# Altium schematic symbol library IM_v1.0.SchLib: 77 symbols
Pins are listed as number, name and electrical type; pins without a type are passive.

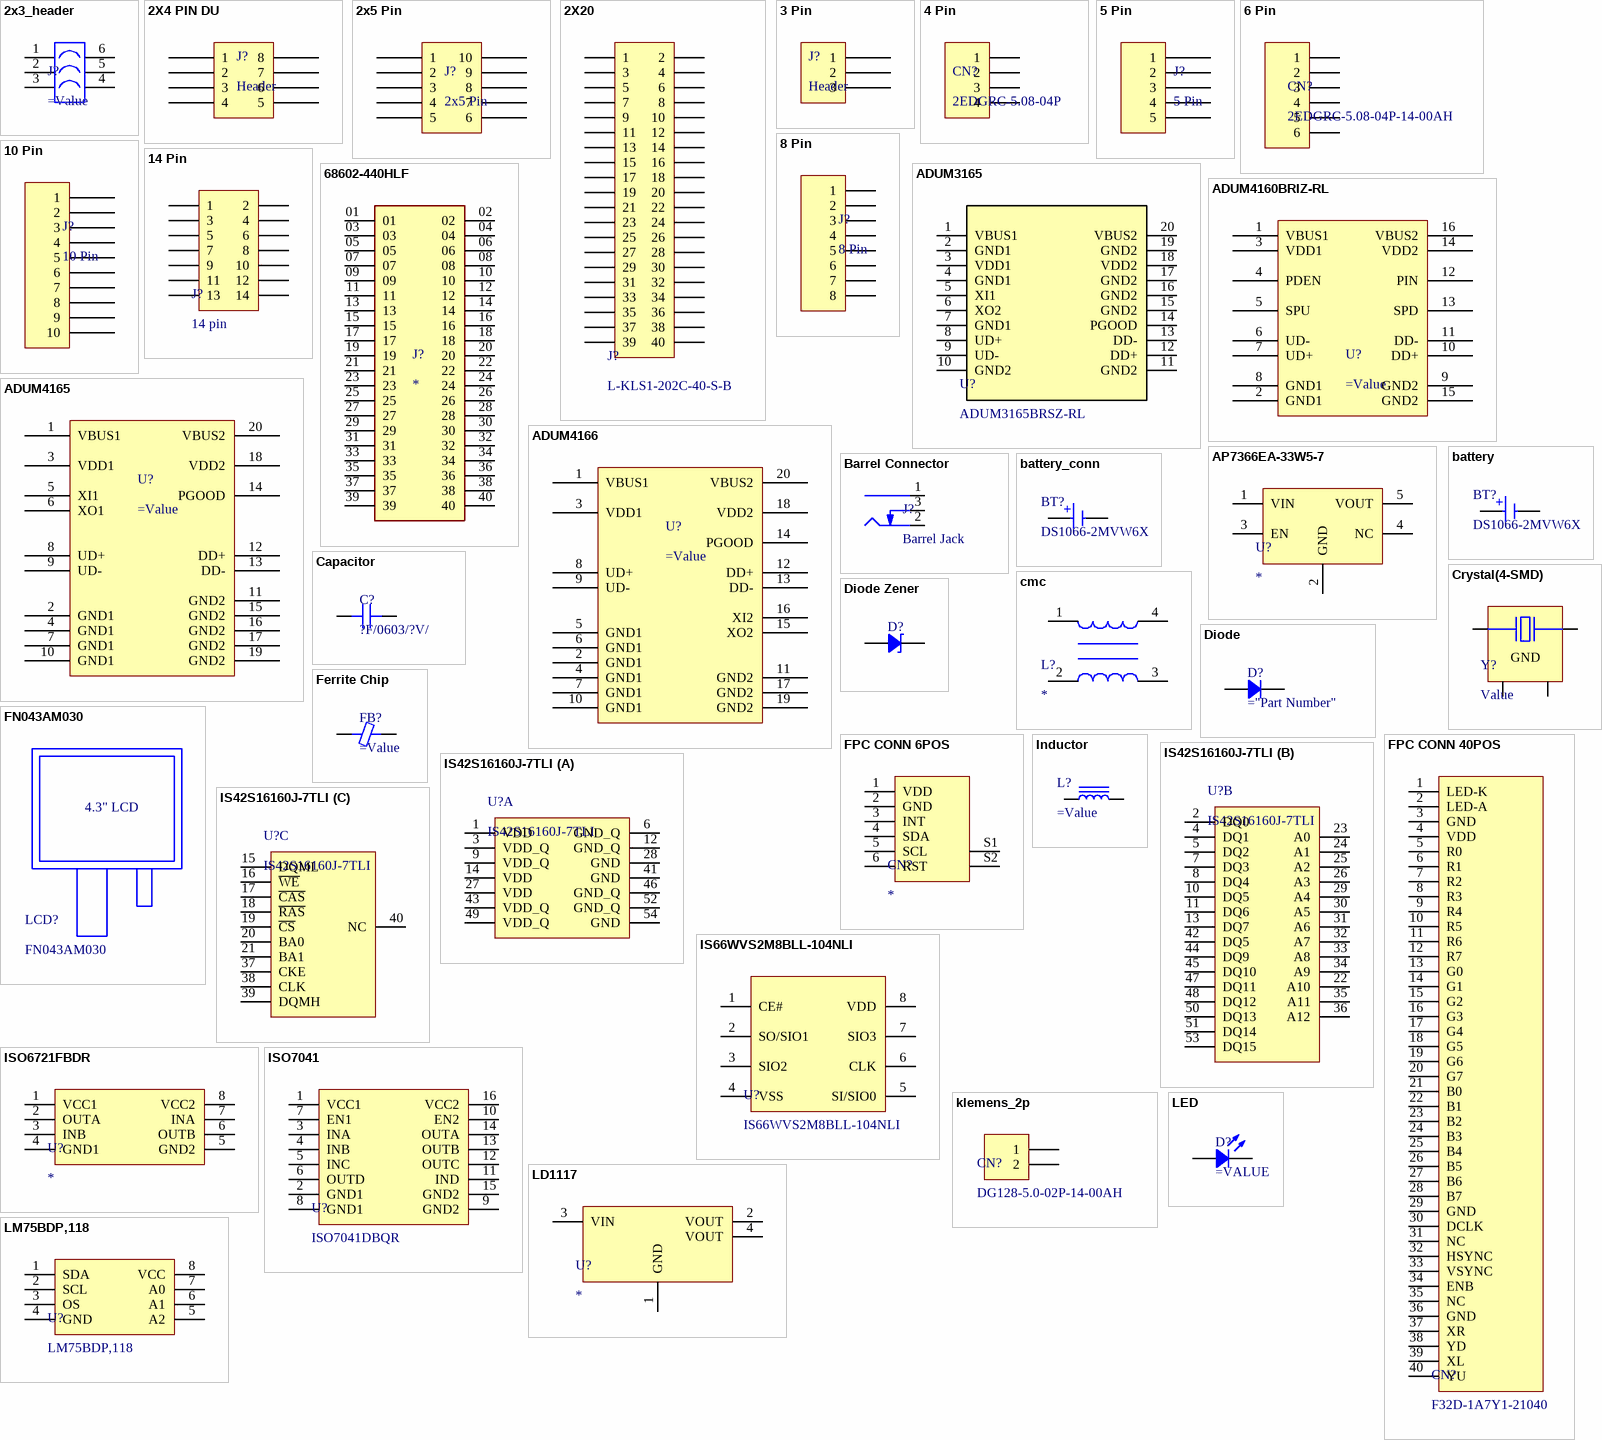
[diagram p0: symbols 2x3_header to LM75BDP,118]

## 2x3_header
designator J?
pins: 1, 2, 3, 4, 5, 6

## 2X4 PIN DU
designator J?, comment Header
pins: 1, 2, 3, 4, 5, 6, 7, 8

## 2x5 Pin
designator J?
pins: 1, 2, 3, 4, 5, 6, 7, 8, 9, 10

## 2X20
designator J?, comment L-KLS1-202C-40-S-B
BOX HEADER 40PIN(2x20) 1.27MM THT V/T MALE BLACK; Assembly: .; Value: L-KLS1-202C-40-S-B; PN: L-KLS1-202C-40-S-B; HelpURL: https://www.ozdisan.com/p/box-headerlar-295/kls-electronic-l-kls1-202c-40-s-b-531010
footprint L-KLS1-202C-40-S-B
pins: 1, 2, 3, 4, 5, 6, 7, 8, 9, 10, 11, 12, 13, 14, 15, 16, 17, 18, 19, 20, 21, 22, 23, 24, 25, 26, 27, 28, 29, 30, 31, 32, 33, 34, 35, 36, 37, 38, 39, 40

## 3 Pin
designator J?, comment Header
pins: 1, 2, 3

## 4 Pin
designator CN?, comment 2EDGRC-5.08-04P
Assembly: .; Value: 2EDGRC-5.08-04P; PN: 2EDGRC-5.08-04P; HelpURL: https://www.ozdisan.com/p/gecmeli-klemensler-411/degson-2edgrc-5-08-04p-14-00ah-445450
footprint 2EDGRC-5.08-04P
pins: 1, 2, 3, 4

## 5 Pin
designator J?
pins: 1, 2, 3, 4, 5

## 6 Pin
designator CN?, comment 2EDGRC-5.08-04P-14-00AH
Assembly: .; HelpURL: https://www.ozdisan.com/p/gecmeli-klemensler-411/degson-2edgrc-5-08-04p-14-00ah-445450; PN: 2EDGRC-5.08-04P-14-00AH; Value: 2EDGRC-5.08-04P-14-00AH
footprint 2EDGRC-5.08-06P
pins: 1, 2, 3, 4, 5, 6

## 8 Pin
designator J?
pins: 1, 2, 3, 4, 5, 6, 7, 8

## 10 Pin
designator J?
pins: 1, 2, 3, 4, 5, 6, 7, 8, 9, 10

## 14 Pin
designator J?, comment 14 pin
Value: *; PN: *; HelpURL: *; Assembly: *
pins: 1, 2, 3, 4, 5, 6, 7, 8, 9, 10, 11, 12, 13, 14

## 68602-440HLF
designator J?
MF: {'manufacturer': u'Amphenol ICC (FCI)'}; MP: 68602-440HLF; Package: None; Price: None; Value: *; Availability: Unavailable
footprint AMPHENOL_68602-440HLF (Footprint not found)
pins: 01, 02, 03, 04, 05, 06, 07, 08, 09, 10, 11, 12, 13, 14, 15, 16, 17, 18, 19, 20, 21, 22, 23, 24, 25, 26, 27, 28, 29, 30, 31, 32, 33, 34, 35, 36, 37, 38, 39, 40

## ADUM3165
designator U?, comment ADUM3165BRSZ-RL
3.75 kV RMS Digital Isolators for Isolated USB 2.0 High, Full, and Low Speed; Assembly: .; Value: ADUM3165BRSZ-RL; PN: ADUM3165BRSZ-RL; HelpURL: https://www.digikey.com/en/products/detail/analog-devices-inc/ADUM3165BRSZ-RL/16580710
footprint SSOP-20 (SSOP, 20-Leads, Body 7.20x5.30mm, Pitch 0.65mm, IPC Medium Density)
pins: 1 VBUS1, 2 GND1, 3 VDD1, 4 GND1, 5 XI1, 6 XO2, 7 GND1, 8 UD+, 9 UD-, 10 GND2, 11 GND2, 12 DD+, 13 DD-, 14 PGOOD, 15 GND2, 16 GND2, 17 GND2, 18 VDD2, 19 GND2, 20 VBUS2

## ADUM4160BRIZ-RL
designator U?
footprint SSOP-20 (SSOP, 20-Leads, Body 7.20x5.30mm, Pitch 0.65mm, IPC Medium Density)
pins: 1 VBUS1, 2 GND1, 3 VDD1, 4 PDEN, 5 SPU, 6 UD-, 7 UD+, 8 GND1, 9 GND2, 10 DD+, 11 DD-, 12 PIN, 13 SPD, 14 VDD2, 15 GND2, 16 VBUS2

## ADUM4165
designator U?
pins: 1 VBUS1, 2 GND1, 3 VDD1, 4 GND1, 5 XI1, 6 XO1, 7 GND1, 8 UD+, 9 UD-, 10 GND1, 11 GND2, 12 DD+, 13 DD-, 14 PGOOD, 15 GND2, 16 GND2, 17 GND2, 18 VDD2, 19 GND2, 20 VBUS2

## ADUM4166
designator U?
pins: 1 VBUS1, 2 GND1, 3 VDD1, 4 GND1, 5 GND1, 6 GND1, 7 GND1, 8 UD+, 9 UD-, 10 GND1, 11 GND2, 12 DD+, 13 DD-, 14 PGOOD, 15 XO2, 16 XI2, 17 GND2, 18 VDD2, 19 GND2, 20 VBUS2

## AP7366EA-33W5-7
designator U?
IC REG LINEAR 3.3V 600MA SOT-25; PN: *; HelpURL: *; Assembly: *; Value: *
footprint SOT25 (SOT25, 5-Leads, Body 3.00x2.85mm, Pitch 0.95mm, IPC Medium Density)
pins: 1 VIN, 2 GND, 3 EN, 4 NC, 5 VOUT

## Barrel Connector
designator J?, comment Barrel Jack
Value: PJ-002B; Assembly: .; PN: PJ-002B; HelpURL: https://www.digikey.com/en/products/detail/same-sky-formerly-cui-devices/PJ-002B/96965
footprint CUI_PJ-002B
pins: 1 Centre, 2 Outer, 3 SW

## battery
designator BT?, comment DS1066-2MVW6X
Assembly: .; Value: DS1066-2MVW6X; PN: DS1066-2MVW6X; HelpURL: https://www.ozdisan.com/p/pcb-konnektorler-310/connfly-ds1066-2mvw6x-423540
footprint batt_conn
footprint batt_conn
pins: 1 +, 2 -

## battery_conn
designator BT?, comment DS1066-2MVW6X
Assembly: .; Value: DS1066-2MVW6X; PN: DS1066-2MVW6X; HelpURL: https://www.ozdisan.com/p/pcb-konnektorler-310/connfly-ds1066-2mvw6x-423540
footprint batt_conn
pins: 1 +, 2 -

## Capacitor
designator C?, comment ?F/0603/?V/
Value: ?F/0603/?V/; HelpURL: *; PN: *; Assembly: *
footprint 0402_cap
footprint 0603_cap
footprint 0805_cap
footprint 1206_cap
pins: 1, 2

## cmc
designator L?
Assembly: .; Help URL: *; PN: *; Value: *
footprint CMC((4.50mm x 3.20mm))
pins: 1, 2, 3, 4

## Crystal(4-SMD)
designator Y?, comment Value
Value: *; PN: *; HelpURL: *; Assembly: *
footprint SMD4-Nolead (Crystal, 4-Leads, Body 2.50x3.20mm, Pitch 2.20mm, IPC Medium Density)
pins: 1, 2 GND, 3, 4 GND

## Diode
designator D?
Rectifier Diode
footprint DO214AC SMA (Molded Diode, 2-Leads, Body 4.30x2.60mm, IPC Medium Density)
pins: 1, 2

## Diode Zener
designator D?
Zener Diode; HelpURL: *; PN: *; Assembly: *
footprint SOD323 (SOD, 2-Leads, Body 1.25x2.50mm, IPC Medium Density)
footprint DO214AC SMA (Molded Diode, 2-Leads, Body 4.30x2.60mm, IPC Medium Density)
pins: 1, 2

## Ferrite Chip
designator FB?
SMT Ferrite Chip
footprint 0805_ferrite
footprint 1206_ferrite
pins: 1, 2

## FN043AM030
designator LCD?
TFT 4.3” 480X272 WITH CTP FT5426; Manufacturer: FANNAL; MFC PN: FN043AM030; Value: FN043AM030; Assembly: *; Help URL: https://www.ozdisan.com/p/tft-paneller-381/fannal-fn043am030-v1-0-535823
footprint LCD_4.3"
text: 4.3" LCD

## FPC CONN 6POS
designator CN?
Value: *; PN: *; HelpURL: *; Assembly: *
pins: 1 VDD, 2 GND, 3 INT, 4 SDA, 5 SCL, 6 RST, S1 SHIELD, S2 SHIELD

## FPC CONN 40POS
designator CN?, comment F32D-1A7Y1-21040
CONN FFC BOTTOM 40POS 0.5MM R/A; Assembly: .; PN: F32D-1A7Y1-21040; Value: F32D-1A7Y1-21040; HelpURL: https://www.digikey.com/en/products/detail/amphenol-cs-fci/F32D-1A7Y1-21040/11564657?s=N4IgTCBcDaIGIGYwBEC0BGAggdgJrtTHQAYAWYkAXQF8g
footprint FPC_40POS_DOUBLESIDE
pins: 1 LED-K, 2 LED-A, 3 GND, 4 VDD, 5 R0, 6 R1, 7 R2, 8 R3, 9 R4, 10 R5, 11 R6, 12 R7, 13 G0, 14 G1, 15 G2, 16 G3, 17 G4, 18 G5, 19 G6, 20 G7, 21 B0, 22 B1, 23 B2, 24 B3, 25 B4, 26 B5, 27 B6, 28 B7, 29 GND, 30 DCLK, 31 NC, 32 HSYNC, 33 VSYNC, 34 ENB, 35 NC, 36 GND, 37 XR, 38 YD, 39 XL, 40 YU

## Inductor
designator L?
SMT Inductor
pins: 1, 2

## IS42S16160J-7TLI
designator U?
SDRAM Memory IC 256Mbit Parallel 143 MHz 5.4 ns 54-TSOP II; Assembly: .; Value: IS42S16160J-7TLI; PN: IS42S16160J-7TLI; HelpURL: https://www.digikey.com/en/products/detail/issi-integrated-silicon-solution-inc/IS42S16160J-7TLI/5319798
footprint TSOP-II-54
part A pins: 1 VDD, 3 VDD_Q, 6 GND_Q, 9 VDD_Q, 12 GND_Q, 14 VDD, 27 VDD, 28 GND, 41 GND, 43 VDD_Q, 46 GND_Q, 49 VDD_Q, 52 GND_Q, 54 GND
part B pins: 2 DQ0, 4 DQ1, 5 DQ2, 7 DQ3, 8 DQ4, 10 DQ5, 11 DQ6, 13 DQ7, 22 A10, 23 A0, 24 A1, 25 A2, 26 A3, 29 A4, 30 A5, 31 A6, 32 A7, 33 A8, 34 A9, 35 A11, 36 A12, 42 DQ5, 44 DQ9, 45 DQ10, 47 DQ11, 48 DQ12, 50 DQ13, 51 DQ14, 53 DQ15
part C pins: 15 DQML, 16 ~{WE}, 17 ~{CAS}, 18 ~{RAS}, 19 ~{CS}, 20 BA0, 21 BA1, 37 CKE, 38 CLK, 39 DQMH, 40 NC

## IS66WVS2M8BLL-104NLI
designator U?
PSRAM (Pseudo SRAM) Memory IC 16Mbit SPI, QPI 104 MHz 7 ns 8-SOIC; Assembly: .; Value: IS66WVS2M8BLL-104NLI; PN: IS66WVS2M8BLL-104NLI; HelpURL: https://www.digikey.com/en/products/detail/issi-integrated-silicon-solution-inc/IS66WVS2M8BLL-104NLI/16260610
pins: 1 CE#, 2 SO/SIO1, 3 SIO2, 4 VSS, 5 SI/SIO0, 6 CLK, 7 SIO3, 8 VDD

## ISO6721FBDR
designator U?
Assembly: *; HelpURL: *; PN: *; Value: *
pins: 1 VCC1, 2 OUTA, 3 INB, 4 GND1, 5 GND2, 6 OUTB, 7 INA, 8 VCC2

## ISO7041
designator U?, comment ISO7041DBQR
SPI Digital Isolator 3000Vrms 4 Channel 2Mbps 50kV/µs CMTI 16-SSOP (0.154", 3.90mm Width); Assembly: .; Value: ISO7041DBQR; PN: ISO7041DBQR; HelpURL: https://www.digikey.com/en/products/detail/texas-instruments/ISO7041DBQR/10448338
footprint 16-SSOP (0.154", 3.90mm Width)
pins: 1 VCC1, 2 GND1, 3 INA, 4 INB, 5 INC, 6 OUTD, 7 EN1, 8 GND1, 9 GND2, 10 EN2, 11 IND, 12 OUTC, 13 OUTB, 14 OUTA, 15 GND2, 16 VCC2

## klemens_2p
designator CN?, comment DG128-5.0-02P-14-00AH
Value: DG128-5.0-02P-14-00AH; Parameter 2: DG128-5.0-02P-14-00AH; Parameter 3: DG128-5.0-02P-14-00AH
footprint klemens
pins: 1, 2

## LD1117
designator U?
Wide Temperature Three-Pin Adjustable Regulator; Value: *; PN: *; HelpURL: *; Assembly: *
footprint SOT-223 (SOT223, 4-Leads, Body 6.50x7.00mm (avg), Pitch 2.30mm, IPC Medium Density)
pins: 1 GND, 2 VOUT, 3 VIN, 4 VOUT

## LED
designator D?
Chip LED
footprint LED 0603_1608 GREEN (Chip Diode, 2-Leads, Body 1.60x0.80mm, IPC Medium Density)
pins: 1, 2

## LM75BDP,118
designator U?
SENSOR DIGITAL -55C-125C 8TSSOP; Assembly: .; HelpURL: https://www.digikey.com/en/products/detail/nxp-usa-inc/LM75BDP-118/2075977; PN: LM75BDP,118; Value: LM75BDP,118
pins: 1 SDA, 2 SCL, 3 OS, 4 GND, 5 A2, 6 A1, 7 A0, 8 VCC

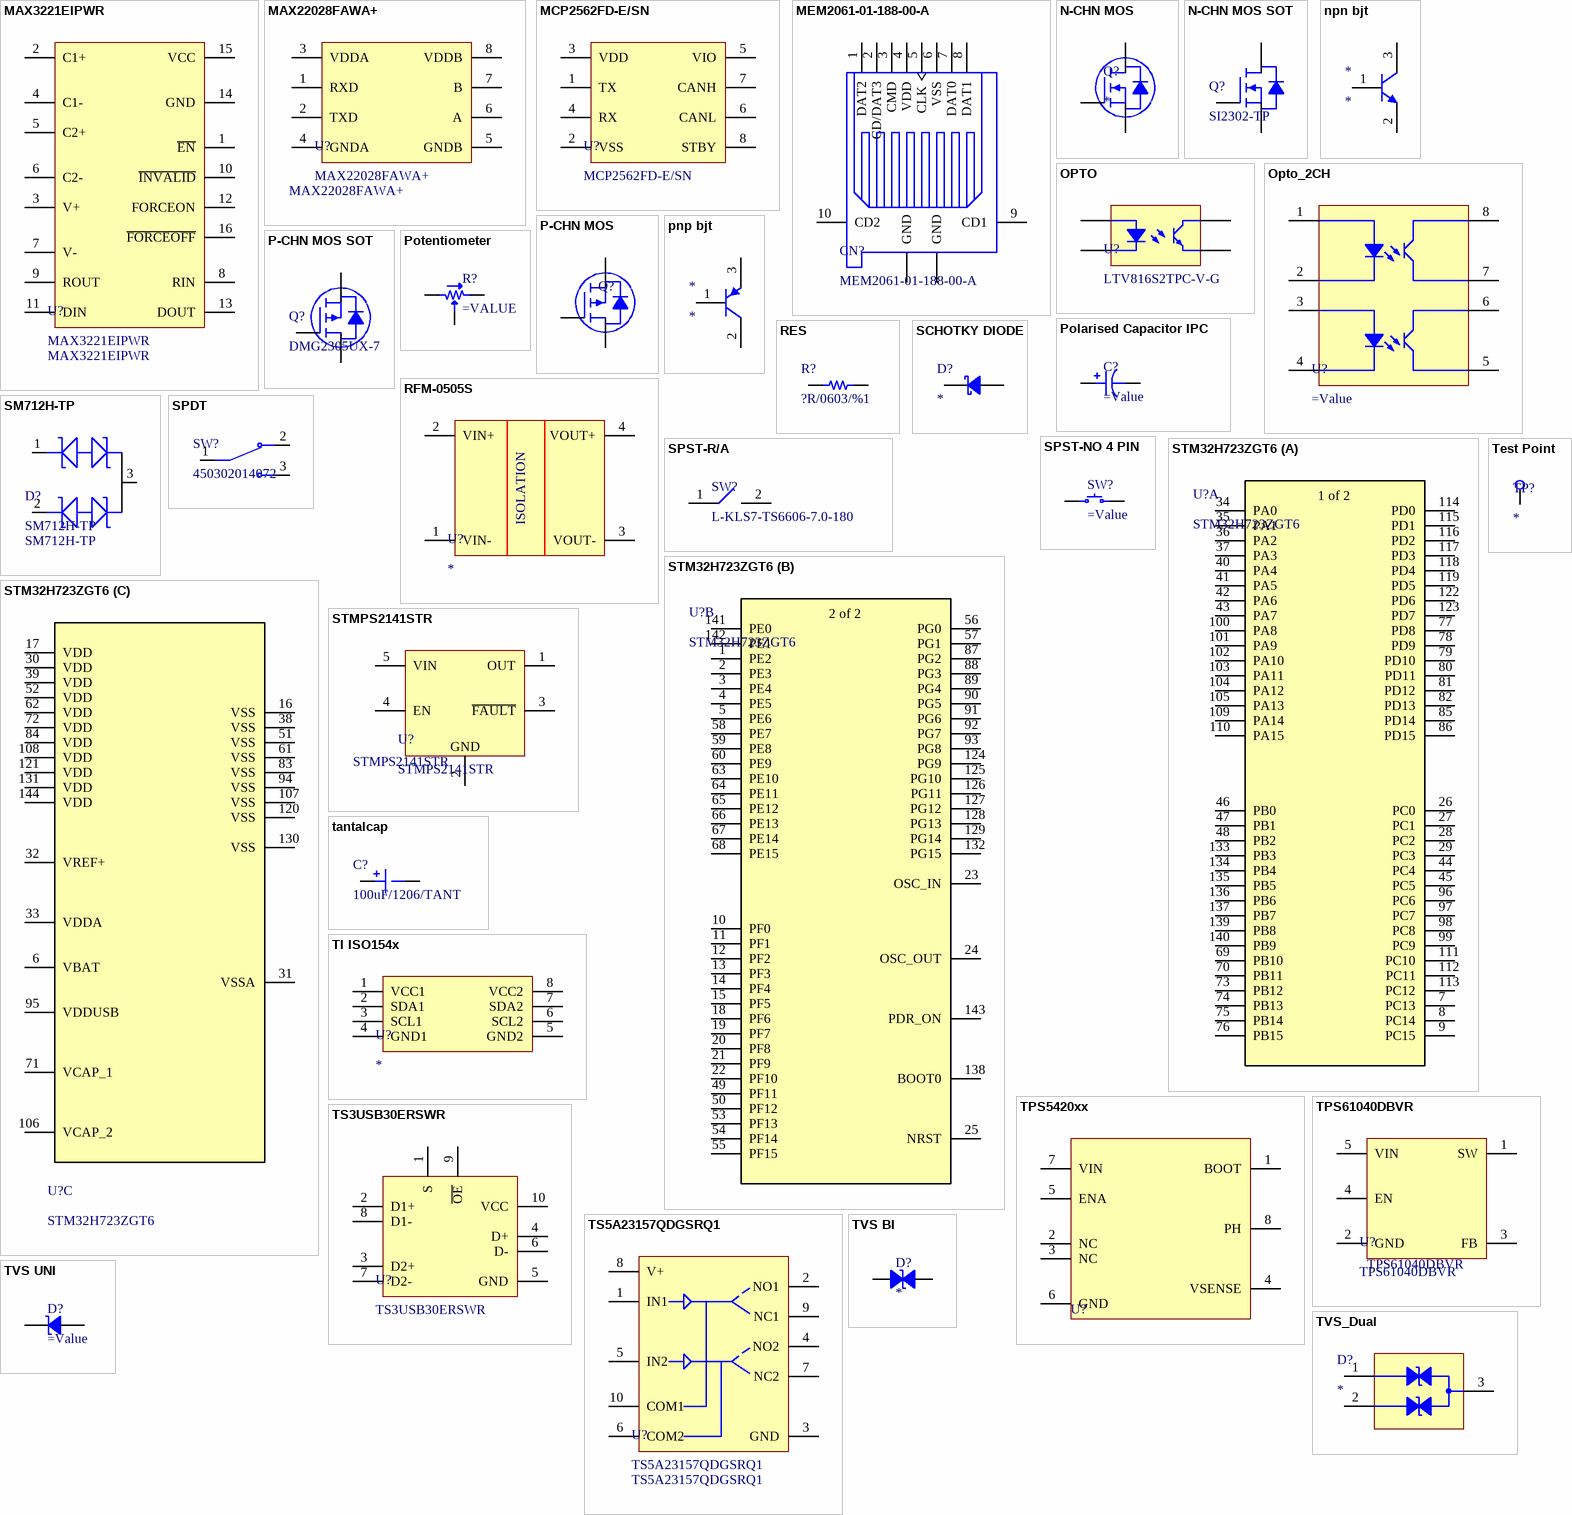
[diagram p1: symbols MAX3221EIPWR to TVS_Dual]

## MAX3221EIPWR
designator U?
IC TRANSCEIVER FULL 1/1 16TSSOP; Assembly: .; PN: MAX3221EIPWR; HelpURL: https://www.digikey.com/en/products/detail/texas-instruments/MAX3221EIPWR/964660?s=N4IgTCBcDaILIEEAaBmMYCMBRAkgBQHUAlEAXQF8g; Value: MAX3221EIPWR
footprint 16-TSSOP (TSSOP, 16-Leads, Body 5.00x4.40mm, Pitch 0.65mm, IPC Medium Density)
pins: 1 ~{EN}, 2 C1+, 3 V+, 4 C1-, 5 C2+, 6 C2-, 7 V-, 8 RIN, 9 ROUT, 10 ~{INVALID}, 11 DIN, 12 FORCEON, 13 DOUT, 14 GND, 15 VCC, 16 ~{FORCEOFF}

## MAX22028FAWA+
designator U?
1/1 Transceiver, Isolated Half RS422, RS485 8-SOIC; Assembly: .; PN: MAX22028FAWA+; HelpURL: https://www.digikey.com/en/products/detail/analog-devices-inc-maxim-integrated/MAX22028FAWA/15652899; Value: MAX22028FAWA+
footprint 8-SOIC (0.209", 5.30mm Width)
pins: 1 RXD, 2 TXD, 3 VDDA, 4 GNDA, 5 GNDB, 6 A, 7 B, 8 VDDB

## MCP2562FD-E/SN
designator U?
1/1 Transceiver CANbus 8-SOIC; Assembly: .; HelpURL: https://www.digikey.com/en/products/detail/microchip-technology/MCP2562FD-E-SN/4842808; PN: MCP2562FD-E/SN; Value: MCP2562FD-E/SN
footprint SOIC-8(3.90MM) (Package SOIC-8, 8-Leades, 4.90 x 3.89 mm Body , Pitch 1.27 mm)
pins: 1 TX, 2 VSS, 3 VDD, 4 RX, 5 VIO, 6 CANL, 7 CANH, 8 STBY

## MEM2061-01-188-00-A
designator CN?
10 (8 + 2) Position Card Connector Secure Digital - microSD™ Surface Mount, Right Angle Gold; Assembly: .; Value: MEM2061-01-188-00-A; PN: MEM2061-01-188-00-A; HelpURL: https://www.digikey.com/en/products/detail/gct/MEM2061-01-188-00-A/9859612?s=N4IgTCBcDaILIFE5gAwDYCMBaF2MA58cUsBBEAXQF8g
footprint GCT_MEM2061-01-188-00-A_REVA
pins: 1 DAT2, 2 CD/DAT3, 3 CMD, 4 VDD, 5 CLK, 6 VSS, 7 DAT0, 8 DAT1, 9 CD1, 10 CD2, 11 GND (power), 12 GND (power)

## N-CHN MOS
designator Q?
Assembly: *; HelpURL: *; PN: *; Value: *
footprint TO 252 (DPAK, Body 9.94x6.56mm)
pins: D, G, S

## N-CHN MOS SOT
designator Q?, comment SI2302-TP
Assembly: .; Help URL: https://www.digikey.com/en/products/detail/mcc-micro-commercial-components/SI2302-TP/1793243; PN: SI2302-TP; Value: SI2302-TP
footprint TI SOT-23-3 DBZ (SOT23, 3-Leads, Body 2.92x2.37mm, Pitch 0.95mm, IPC Medium Density)
pins: 1 G, 2 S, 3 D

## npn bjt
designator *
pins: 1 B, 2 E, 3 C

## OPTO
designator U?, comment LTV816S2TPC-V-G
Assembly: .; Value: LTV816S2TPC-V-G; PN: LTV816S2TPC-V-G; HelpURL: https://www.ozdisan.com/p/transistor-ve-fotovoltaik-cikisli-optokuplorler-189/liteon-ltv816s2tpc-v-g-951812
footprint 4-SMD, Gull Wing
pins: 1, 2, 3, 4

## Opto_2CH
designator U?
footprint SMD-8 Gullwing (Logic Output Optoisolator 1MHz Open Collector 5000Vrms 1 Channel  CMTI, 2.54mm Pitch, 6.5x7.12mm Body, 6-SMD Package)
pins: 1, 2, 3, 4, 5, 6, 7, 8

## P-CHN MOS
designator Q?
Assembly: .; HelpURL: *; PN: *; Value: *
footprint TO 252 (DPAK, Body 9.94x6.56mm)
pins: D, G, S

## P-CHN MOS SOT
designator Q?, comment DMG2305UX-7
Assembly: .; Value: DMG2305UX-7; PN: DMG2305UX-7; Help URL: https://www.digikey.com/en/products/detail/diodes-incorporated/DMG2305UX-7/4340667
footprint TI SOT-23-3 DBZ (SOT23, 3-Leads, Body 2.92x2.37mm, Pitch 0.95mm, IPC Medium Density)
pins: 1 G, 2 S, 3 D

## pnp bjt
designator *
pins: 1 B, 2 C, 3 E

## Polarised Capacitor IPC
designator C?
SMT Polarised Capacitor
footprint CAP ALM 8.3MM H6.8MM
footprint CAP ALSMD 6.6MM (Aluminum SMD Electrolytic Capacitor, 6.60mm Land Size, 6.30mm Diameter, 5.65mm Height, 8.00mm Maximum Leads Span)
pins: 1, 2

## Potentiometer
designator R?
Potentiometer
pins: 1, 2, 3

## RES
designator R?, comment ?R/0603/%1
Assembly: .; HelpURL: *; PN: *; Value: ?R/0603/%1
footprint 0402_res
footprint 0603_res
footprint 0805_res
footprint 1206_res
pins: 1, 2

## RFM-0505S
designator U?
Value: *; HelpURL: *; PN: *; Assembly: *
footprint SIP4
pins: 1 VIN-, 2 VIN+, 3 VOUT-, 4 VOUT+
text: ISOLATION

## SCHOTKY DIODE
designator D?
Value: *; PN: *; HelpURL: *; Assembly: *
footprint DO214AC SMA (Molded Diode, 2-Leads, Body 4.30x2.60mm, IPC Medium Density)
pins: 1, 2

## SM712H-TP
designator D?
TVS DIODE 12VWM 28VC SOT23; Assembly: .; HelpURL: https://www.digikey.com/en/products/detail/mcc-micro-commercial-components/SM712H-TP/12177158; PN: SM712H-TP; Value: SM712H-TP
pins: 1, 2, 3

## SPDT
designator SW?, comment 450302014072
Assembly: .; Value: 450302014072; PN: 450302014072; HelpURl: https://www.digikey.com/en/products/detail/w%C3%BCrth-elektronik/450302014072/5209105
footprint 450302014072
pins: 1, 2, 3

## SPST-NO 4 PIN
designator SW?
footprint PTS810 SJS 250 SMTR LFS
pins: 1, 2, 3, 4

## SPST-R/A
designator SW?, comment L-KLS7-TS6606-7.0-180
SWITCH TACT 6.00x6.00 7.00mm 180gF THT R/A; Manufacturer: KLS ELECTRONIC; Assembly: .; Help URL: https://www.ozdisan.com/p/tact-sivicler-485/kls-electronic-l-kls7-ts6606-7-0-180-459003; PN: L-KLS7-TS6606-7.0-180; Value: L-KLS7-TS6606-7.0-180
footprint SW(7.10mm x 6.55mm)
pins: 1, 2

## STM32H723ZGT6
designator U?
ARM® Cortex®-M7 STM32H7 Microcontroller IC 32-Bit 550MHz 1MB (1M x 8) FLASH 144-LQFP (20x20); Assembly: .; Value: STM32H723ZGT6; PN: STM32H723ZGT6; HelpURL: https://www.digikey.com/en/products/detail/stmicroelectronics/STM32H723ZGT6/13171205
footprint ST LQFP-144 20X20MM (LQFP, 144-Leads, Body 20.00x20.00mm, Pitch 0.50mm, IPC Medium Density)
part A pins: 7 PC13, 8 PC14, 9 PC15, 26 PC0, 27 PC1, 28 PC2, 29 PC3, 34 PA0, 35 PA1, 36 PA2, 37 PA3, 40 PA4, 41 PA5, 42 PA6, 43 PA7, 44 PC4, 45 PC5, 46 PB0, 47 PB1, 48 PB2, 69 PB10, 70 PB11, 73 PB12, 74 PB13, 75 PB14, 76 PB15, 77 PD8, 78 PD9, 79 PD10, 80 PD11, 81 PD12, 82 PD13, 85 PD14, 86 PD15, 96 PC6, 97 PC7, 98 PC8, 99 PC9, 100 PA8, 101 PA9, 102 PA10, 103 PA11, 104 PA12, 105 PA13, 109 PA14, 110 PA15, 111 PC10, 112 PC11, 113 PC12, 114 PD0, 115 PD1, 116 PD2, 117 PD3, 118 PD4, 119 PD5, 122 PD6, 123 PD7, 133 PB3, 134 PB4, 135 PB5, 136 PB6, 137 PB7, 139 PB8, 140 PB9
part B pins: 1 PE2, 2 PE3, 3 PE4, 4 PE5, 5 PE6, 10 PF0, 11 PF1, 12 PF2, 13 PF3, 14 PF4, 15 PF5, 18 PF6, 19 PF7, 20 PF8, 21 PF9, 22 PF10, 23 OSC_IN, 24 OSC_OUT, 25 NRST, 49 PF11, 50 PF12, 53 PF13, 54 PF14, 55 PF15, 56 PG0, 57 PG1, 58 PE7, 59 PE8, 60 PE9, 63 PE10, 64 PE11, 65 PE12, 66 PE13, 67 PE14, 68 PE15, 87 PG2, 88 PG3, 89 PG4, 90 PG5, 91 PG6, 92 PG7, 93 PG8, 124 PG9, 125 PG10, 126 PG11, 127 PG12, 128 PG13, 129 PG14, 132 PG15, 138 BOOT0, 141 PE0, 142 PE1, 143 PDR_ON
part C pins: 6 VBAT (power), 16 VSS (power), 17 VDD (power), 30 VDD (power), 31 VSSA (power), 32 VREF+ (power), 33 VDDA (power), 38 VSS (power), 39 VDD (power), 51 VSS (power), 52 VDD (power), 61 VSS (power), 62 VDD (power), 71 VCAP_1 (power), 72 VDD (power), 83 VSS (power), 84 VDD (power), 94 VSS (power), 95 VDDUSB (power), 106 VCAP_2 (power), 107 VSS (power), 108 VDD (power), 120 VSS (power), 121 VDD (power), 130 VSS (power), 131 VDD (power), 144 VDD (power)
part A text: 1 of 2
part B text: 2 of 2

## STMPS2141STR
designator U?
IC PWR SWITCH N-CHAN 1:1 SOT23-5; Manufacturer: STMicroelectronics; Assembly: .; Help URL: https://www.ozdisan.com/p/power-switch-entegreleri-283/stm-stmps2141str-481741; PN: STMPS2141STR; Value: STMPS2141STR
footprint SOT-23-5 (SOT23, 5-Leads, Body 2.90x2.80mm, Pitch 0.95mm, IPC Medium Density)
pins: 1 OUT, 2 GND, 3 ~{FAULT}, 4 EN, 5 VIN

## tantalcap
designator C?, comment 100uF/1206/TANT
MFC PN: TLJA107M010R1400; Assembly: *; Help URL: *; Manufacturer: *; Value: 100uF/1206/TANT
footprint CAP POL 1206_3216 (Molded Capacitor, 2-Leads, Body 3.20x1.6mm, IPC Medium Density)
pins: 1, 2

## Test Point
designator TP?
footprint tp
pins: 1 TP

## TI ISO154x
designator U?
PN: *; Value: *; HelpURL: *; Assembly: *
footprint SOIC-8(3.90MM) (Package SOIC-8, 8-Leades, 4.90 x 3.89 mm Body , Pitch 1.27 mm)
pins: 1 VCC1, 2 SDA1, 3 SCL1, 4 GND1, 5 GND2, 6 SCL2, 7 SDA2, 8 VCC2

## TPS5420xx
designator U?  (value not drawn)
Assembly: *; HelpURL: *; PN: *; Value: *
footprint SOIC-8(3.90MM) (Package SOIC-8, 8-Leades, 4.90 x 3.89 mm Body , Pitch 1.27 mm)
pins: 1 BOOT, 2 NC, 3 NC, 4 VSENSE, 5 ENA, 6 GND, 7 VIN, 8 PH

## TPS61040DBVR
designator U?
LED Driver IC 1 Output DC DC Regulator Step-Up (Boost) PWM Dimming 350mA (Switch) SOT-23-5; Manufacturer: Texas Instruments; Assembly: .; HelpURL: https://www.digikey.com/en/products/detail/texas-instruments/TPS61040DBVR/454263; Value: TPS61040DBVR
footprint SOT-23-5 (SOT23, 5-Leads, Body 2.90x2.80mm, Pitch 0.95mm, IPC Medium Density)
pins: 1 SW, 2 GND, 3 FB, 4 EN, 5 VIN

## TS3USB30ERSWR
designator U?
Assembly: .; PN: TS3USB30ERSWR; Value: TS3USB30ERSWR; helpURL: https://www.digikey.com/en/products/detail/texas-instruments/TS3USB30ERSWR/2092506
footprint 10-UFQFN
footprint VSSOP-10 (TSSOP, 10-Leads, Body 3.00x3.00mm, Pitch 0.50mm, IPC Medium Density)
pins: 1 S, 2 D1+, 3 D2+, 4 D+, 5 GND, 6 D-, 7 D2-, 8 D1-, 9 ~{OE}, 10 VCC

## TS5A23157QDGSRQ1
designator U?
IC SWITCH SPDT X 2 15OHM 10VSSOP; Assembly: .; PN: TS5A23157QDGSRQ1; HelpURL: https://www.digikey.com/en/products/detail/texas-instruments/TS5A23157QDGSRQ1/3996775; Value: TS5A23157QDGSRQ1
footprint VSSOP-10 (TSSOP, 10-Leads, Body 3.00x3.00mm, Pitch 0.50mm, IPC Medium Density)
pins: 1 IN1, 2 NO1, 3 GND, 4 NO2, 5 IN2, 6 COM2, 7 NC2, 8 V+, 9 NC1, 10 COM1

## TVS BI
designator D?
Zener Diode; Assembly: *; HelpURL: *; PN: *; Value: *
footprint SOD323 (SOD, 2-Leads, Body 1.25x2.50mm, IPC Medium Density)
pins: 1, 2

## TVS UNI
designator D?
Rectifier Diode
footprint SOD323 (SOD, 2-Leads, Body 1.25x2.50mm, IPC Medium Density)
pins: 1, 2

## TVS_Dual
designator D?
TVS DIODE
pins: 1 I/O 1, 2 GND, 3 I/O 2

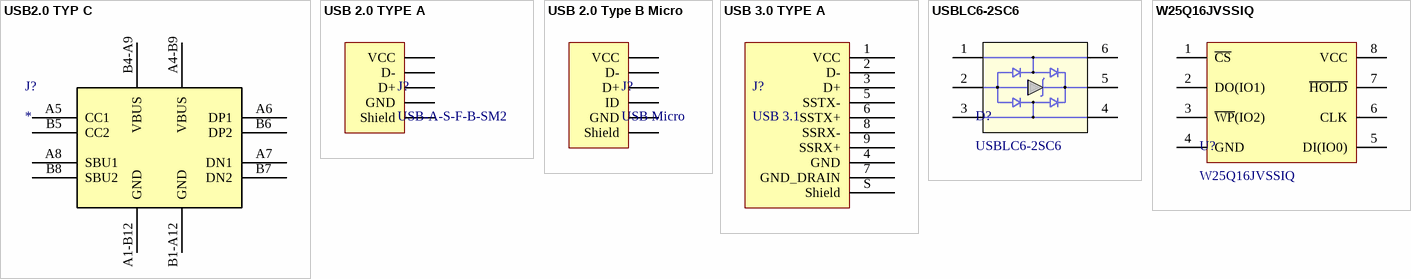
[diagram p2: symbols USB2.0 TYP C to W25Q16JVSSIQ]

## USB2.0 TYP C
designator J?
No Description Available; Value: *; HelpURL: *; PN: *; Assembly: *
footprint USB4105_GCT
pins: A1-B12 GND, A4-B9 VBUS, A5 CC1, A6 DP1, A7 DN1, A8 SBU1, B1-A12 GND, B4-A9 VBUS, B5 CC2, B6 DP2, B7 DN2, B8 SBU2

## USB 2.0 TYPE A
designator J?, comment USB-A-S-F-B-SM2
Assembly: .; Value: USB-A-S-F-B-SM2; PN: USB-A-S-F-B-SM2; HelpURL: https://www.digikey.com/en/products/detail/samtec-inc/USB-A-S-F-B-SM2/6679103
footprint USB-A-S-F-B-SM2
pins: 01 VCC, 02 D-, 03 D+, 04 GND, S1 Shield, S2 Shield

## USB 2.0 Type B Micro
designator J?, comment USB Micro
pins: 01 VCC, 02 D-, 03 D+, 04 ID, 05 GND, S Shield

## USB 3.0 TYPE A
designator J?, comment USB 3.1
pins: 1 VCC, 2 D-, 3 D+, 4 GND, 5 SSTX-, 6 SSTX+, 7 GND_DRAIN, 8 SSRX-, 9 SSRX+, S Shield

## USBLC6-2SC6
designator D?
17V Clamp 5A (8/20µs) Ipp Tvs Diode Surface Mount SOT-23-6; Assembly: .; Value: USBLC6-2SC6; PN: USBLC6-2SC6; HelpURL: https://www.digikey.com/en/products/detail/stmicroelectronics/USBLC6-2SC6/1040559
footprint TI SOT-23-6 DBV (SOT23, 6-Leads, Body 2.90x2.80mm, Pitch 0.95mm, IPC Medium Density)
pins: 1, 2, 3, 4, 5, 6

## W25Q16JVSSIQ
designator U?
FLASH - NOR Memory IC 16Mbit SPI - Quad I/O 133 MHz 8-SOIC; Assembly: .; Value: W25Q16JVSSIQ; PN: W25Q16JVSSIQ; HelpURL: https://www.digikey.com/en/products/detail/winbond-electronics/W25Q16JVSSIQ/6193769
pins: 1 ~{CS}, 2 DO(IO1), 3 ~{WP}(IO2), 4 GND, 5 DI(IO0), 6 CLK, 7 ~{HOLD}, 8 VCC